# Altium footprint library 1-Antenna.P.PcbLib: 44 footprints (part 2 of 3)
Each footprint in its own frame and in the unit in brackets; x right, y up, seen from the top. Pads: shape width x height; smd on the part's side, far side on the other; paste and mask are expansions set on the pad; w line width, h text height; cw(c..) or ccw(c..) is an arc to the next point about the centre after c.
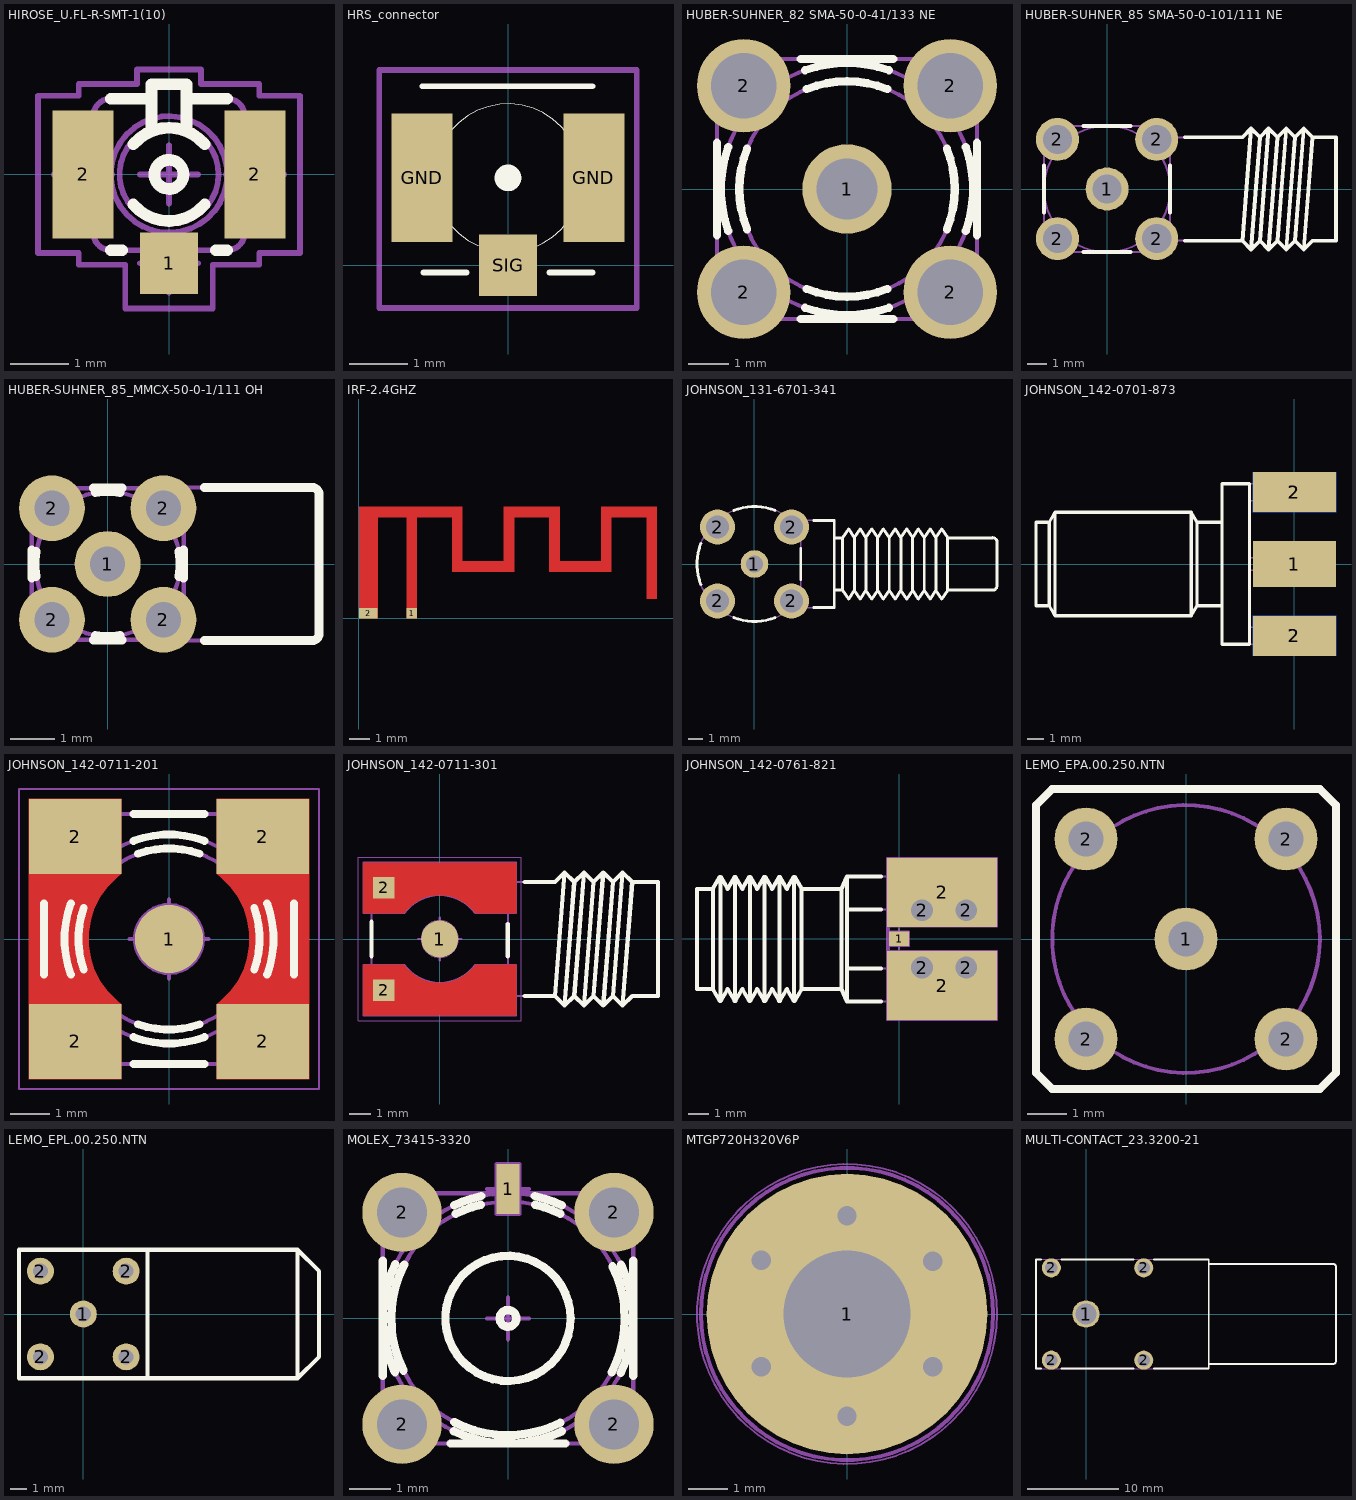
[diagram p1: the footprints below, top view; thin cyan lines are the x and y axes]

## HIROSE_U.FL-R-SMT-1(10) [mm] "Up to 6GHz Ultra Small Surface Mount Male Coaxial Connectors U.FL Series"
height 1.25
pads (3):
  rect 1x1.05 smd: 1(0,-1.525)
  rect 1.05x2.2 smd: 2(-1.475,0) 2(1.475,0)
Top Overlay:
  circle w0.2: c0,0 r0.25
  lines w0.2: -1,-1.3 -0.8,-1.3 ; -1,1.3 -0.3,1.3 ; -0.612,-0.516 ccw(c0,0) 0.612,-0.516 ; -0.612,0.516 cw(c0,0) 0.612,0.516 ; -0.3,0.75 -0.3,1.55 0.3,1.55 0.3,0.75 ; 0.3,1.3 1,1.3 ; 0.8,-1.3 1,-1.3
Mechanical 8:
  lines w0.1: -1.975,0 -1.475,0 ; -1.475,-0.5 -1.475,0 ; -1.475,0.5 -1.475,0 ; -0.975,0 -1.475,0 ; -0.5,-1.525 0,-1.525 ; -0.5,0 0,0 ; 0,-2.025 0,-1.525 ; 0,-1.025 0,-1.525 ; 0,-0.5 0,0 ; 0,0.5 0,0 ; 0.5,-1.525 0,-1.525 ; 0.5,0 0,0 ; 0.975,0 1.475,0 ; 1.475,-0.5 1.475,0 ; 1.475,0.5 1.475,0 ; 1.975,0 1.475,0
Mechanical 14:
  circle w0.1: c0,0 r0.25
  circle w0.1: c0,0 r0.85
  circle w0.1: c0,0 r1
  lines w0.1: -1.3,-0.9 -1.5,-0.9 -1.5,0.9 -1.3,0.9 ; -0.3,-1.3 -0.3,-1.55 0.3,-1.55 0.3,-1.3 ; -0.3,0.954 -0.3,1.55 0.3,1.55 0.3,0.954 ; -0.3,1.3 -1,1.3 ccw(c-1,1) -1.3,1 -1.3,-1 ccw(c-1,-1) -1,-1.3 1,-1.3 ccw(c1,-1) 1.3,-1 1.3,1 ccw(c1,1) 1,1.3 0.3,1.3 ; 1.3,-0.9 1.5,-0.9 1.5,0.9 1.3,0.9
Mechanical 15:
  lines w0.1: 0.75,1.55 1.55,1.55 ; 1.55,1.55 1.55,1.35 2.25,1.35 2.25,-1.35 1.55,-1.35 1.55,-1.55 0.75,-1.55 0.75,-2.3 -0.75,-2.3 -0.75,-1.55 -1.55,-1.55 -1.55,-1.35 -2.25,-1.35 -2.25,1.35 -1.55,1.35 -1.55,1.55 -0.55,1.55 -0.55,1.8 0.55,1.8 0.55,1.55 1.55,1.55
3D body "p10522.stp": height 0.01, standoff 0, extent -2.002,-1.104 -0.952,1.096
3D body "p10522.stp": height 0.01, standoff 0, extent 0.959,-1.094 2.009,1.106
3D body "HIROSE_U.FL-R-SMT-1(10).stp": height 1.25, standoff 0, extent -1.5,-1.55 1.5,1.55

## HRS_connector [mm]
height 9.77
pads (3):
  rect 1.05x2.2 smd: GND(-1.475,1.5) GND(1.475,1.5)
  rect 1x1.05 smd: SIG(0,0)
Top Overlay:
  circle w0.02: c0,1.499 r1.271
  circle w0.254: c0,1.499 r0.102
  lines w0.1: -1.473,3.073 1.448,3.073 ; -1.448,-0.127 -0.711,-0.127 ; 0.711,-0.127 1.448,-0.127
Mechanical 15:
  lines w0.1: -2.21,-0.737 2.21,-0.737 2.21,3.353 -2.21,3.353 -2.21,-0.737
3D body "ant-g.stp": height 1.15, standoff 0, extent -1.5,-0.027 1.5,2.973
3D body "1_05-2_2.stp": height 0.02, standoff 0, extent -2,0.4 -0.95,2.6
3D body "1_05-2_2.stp": height 0.02, standoff 0, extent 0.95,0.4 2,2.6
3D body "1-1_05.stp": height 0.02, standoff 0, extent -0.5,-0.525 0.5,0.525

## HUBER-SUHNER_82 SMA-50-0-41/133 NE [mm] "50 Ohm SMA Straight PCB Jack"
height 9.5
pads (5):
  round 2.2 hole 1.5: 1(0,0)
  round 2.3 hole 1.6: 2(-2.54,-2.54) 2(-2.54,2.54) 2(2.54,-2.54) 2(2.54,2.54)
Top Overlay:
  lines w0.2: -3.2,-1.138 -3.2,1.138 ; -2.921,-1.038 cw(c0,0) -2.921,1.038 ; -2.457,-0.992 cw(c0,0) -2.457,0.992 ; -1.138,-3.2 1.138,-3.2 ; -1.138,3.2 1.138,3.2 ; -1.038,-2.921 ccw(c0,0) 1.038,-2.921 ; -1.038,2.921 cw(c0,0) 1.038,2.921 ; -0.992,-2.457 ccw(c0,0) 0.992,-2.457 ; -0.992,2.457 cw(c0,0) 0.992,2.457 ; 2.457,-0.992 ccw(c0,0) 2.457,0.992 ; 2.921,-1.038 ccw(c0,0) 2.921,1.038 ; 3.2,-1.138 3.2,1.138
Mechanical 8:
  lines w0.1: -3.54,-2.54 -2.54,-2.54 ; -3.54,2.54 -2.54,2.54 ; -2.54,-3.54 -2.54,-2.54 ; -2.54,-1.54 -2.54,-2.54 ; -2.54,1.54 -2.54,2.54 ; -2.54,3.54 -2.54,2.54 ; -1.54,-2.54 -2.54,-2.54 ; -1.54,2.54 -2.54,2.54 ; -1,0 0,0 ; 0,-1 0,0 ; 0,1 0,0 ; 1,0 0,0 ; 1.54,-2.54 2.54,-2.54 ; 1.54,2.54 2.54,2.54 ; 2.54,-3.54 2.54,-2.54 ; 2.54,-1.54 2.54,-2.54 ; 2.54,1.54 2.54,2.54 ; 2.54,3.54 2.54,2.54 ; 3.54,-2.54 2.54,-2.54 ; 3.54,2.54 2.54,2.54
Mechanical 14:
  circle w0.1: c0,0 r3.1
  circle w0.1: c0,0 r2.65
  circle w0.1: c0,0 r0.5
  lines w0.1: -3.2,-3.2 3.2,-3.2 3.2,3.2 -3.2,3.2 -3.2,-3.2
3D body "ant-er50.stp": height 0.1, standoff -1.85, extent -3.69,1.39 -1.39,3.69
3D body "HUBER-SUHNER_82 SMA-50-0-41-133 NE.stp": height 9.5, standoff -4, extent -3.2,-3.2 3.2,3.2
3D body "ant-er50.stp": height 0.1, standoff -1.85, extent 1.39,1.39 3.69,3.69
3D body "ant-er50.stp": height 0.1, standoff -1.85, extent -3.69,-3.69 -1.39,-1.39
3D body "ant-er50.stp": height 0.1, standoff -1.85, extent 1.39,-3.69 3.69,-1.39
3D body "ant-er50.stp": height 0.1, standoff -1.85, extent -1.15,-1.15 1.15,1.15

## HUBER-SUHNER_85 SMA-50-0-101/111 NE [mm] "50 Ohm SMA Right Angle PCB Jack"
height 9.6
pads (5):
  round 2.2 hole 1.5: 1(0,0) 2(-2.54,-2.54) 2(-2.54,2.54) 2(2.54,-2.54) 2(2.54,2.54)
Top Overlay:
  lines w0.2: -3.23,-1.208 -3.23,1.208 ; -1.208,-3.23 1.208,-3.23 ; -1.208,3.23 1.208,3.23 ; 3.23,-1.208 3.23,1.208 ; 4,-2.65 6.93,-2.65 ; 4,2.65 6.93,2.65 7.38,3.1 ; 6.93,-2.65 7.38,-3.1 ; 6.93,-2.65 7.38,3.1 ; 7.38,-3.1 7.83,-2.65 ; 7.38,-3.1 7.83,2.65 ; 7.38,3.1 7.83,2.65 ; 7.83,-2.65 8.28,-3.1 ; 7.83,-2.65 8.28,3.1 ; 7.83,2.65 8.28,3.1 ; 8.28,-3.1 8.73,-2.65 ; 8.28,-3.1 8.73,2.65 ; 8.28,3.1 8.73,2.65 ; 8.73,-2.65 9.18,-3.1 ; 8.73,-2.65 9.18,3.1 ; 8.73,2.65 9.18,3.1 ; 9.18,-3.1 9.63,-2.65 ; 9.18,-3.1 9.63,2.65 ; 9.18,3.1 9.63,2.65 ; 9.63,-2.65 10.08,-3.1 ; 9.63,-2.65 10.08,3.1 ; 9.63,2.65 10.08,3.1 ; 10.08,-3.1 10.53,-2.65 11.73,-2.65 11.73,2.65 10.53,2.65 ; 10.08,-3.1 10.53,2.65 ; 10.08,3.1 10.53,2.65
Mechanical 8:
  lines w0.1: -3.54,-2.54 -2.54,-2.54 ; -3.54,2.54 -2.54,2.54 ; -2.54,-3.54 -2.54,-2.54 ; -2.54,-1.54 -2.54,-2.54 ; -2.54,1.54 -2.54,2.54 ; -2.54,3.54 -2.54,2.54 ; -1.54,-2.54 -2.54,-2.54 ; -1.54,2.54 -2.54,2.54 ; -1,0 0,0 ; 0,-1 0,0 ; 0,1 0,0 ; 1,0 0,0 ; 1.54,-2.54 2.54,-2.54 ; 1.54,2.54 2.54,2.54 ; 2.54,-3.54 2.54,-2.54 ; 2.54,-1.54 2.54,-2.54 ; 2.54,1.54 2.54,2.54 ; 2.54,3.54 2.54,2.54 ; 3.54,-2.54 2.54,-2.54 ; 3.54,2.54 2.54,2.54
Mechanical 14:
  circle w0.1: c0,0 r0.63
  circle w0.1: c0,0 r3.23
  lines w0.1: 2.558,-3.23 3.23,-2.558 ; 3.23,-2.65 6.93,-2.65 ; 3.23,2.65 6.93,2.65 7.38,3.1 ; 6.93,-2.65 7.38,-3.1 ; 6.93,-2.65 7.38,3.1 ; 7.38,-3.1 7.83,-2.65 ; 7.38,-3.1 7.83,2.65 ; 7.38,3.1 7.83,2.65 ; 7.83,-2.65 8.28,-3.1 ; 7.83,-2.65 8.28,3.1 ; 7.83,2.65 8.28,3.1 ; 8.28,-3.1 8.73,-2.65 ; 8.28,-3.1 8.73,2.65 ; 8.28,3.1 8.73,2.65 ; 8.73,-2.65 9.18,-3.1 ; 8.73,-2.65 9.18,3.1 ; 8.73,2.65 9.18,3.1 ; 9.18,-3.1 9.63,-2.65 ; 9.18,-3.1 9.63,2.65 ; 9.18,3.1 9.63,2.65 ; 9.63,-2.65 10.08,-3.1 ; 9.63,-2.65 10.08,3.1 ; 9.63,2.65 10.08,3.1 ; 10.08,-3.1 10.53,-2.65 11.73,-2.65 11.73,2.65 10.53,2.65 ; 10.08,-3.1 10.53,2.65 ; 10.08,3.1 10.53,2.65 ; -3.23,-3.23 -3.23,3.23 3.23,3.23 3.23,-3.23 -3.23,-3.23
3D body "ant-er50.stp": height 0.1, standoff -1.85, extent -3.69,-3.69 -1.39,-1.39
3D body "ant-er50.stp": height 0.1, standoff -1.85, extent 1.39,-3.69 3.69,-1.39
3D body "ant-er50.stp": height 0.1, standoff -1.85, extent 1.39,1.39 3.69,3.69
3D body "ant-er50.stp": height 0.1, standoff -1.85, extent -3.69,1.39 -1.39,3.69
3D body "ant-er50.stp": height 0.1, standoff -1.85, extent -1.15,-1.15 1.15,1.15
3D body "HUBER-SUHNER_85 SMA-50-0-101-111 NE.stp": height 9.6, standoff -4, extent -3.23,-3.23 11.73,3.23

## HUBER-SUHNER_85_MMCX-50-0-1/111 OH [mm] "MMCX 50 Ohm Right Angle PCB Jack"
height 3.8
pads (5):
  round 1.5 hole 0.8: 1(0,0) 2(-1.27,-1.27) 2(-1.27,1.27) 2(1.27,-1.27) 2(1.27,1.27)
Top Overlay:
  lines w0.2: -1.73,-0.326 -1.73,0.326 ; -1.626,-0.282 cw(c0,0) -1.626,0.282 ; -0.326,-1.73 0.326,-1.73 ; -0.326,1.73 0.326,1.73 ; -0.282,-1.626 ccw(c0,0) 0.282,-1.626 ; -0.282,1.626 cw(c0,0) 0.282,1.626 ; 1.626,-0.282 ccw(c0,0) 1.626,0.282 ; 2.208,-1.743 4.665,-1.743 ccw(c4.665,-1.593) 4.815,-1.593 4.815,1.593 ccw(c4.665,1.593) 4.665,1.743 2.208,1.743 ; 1.73,-0.326 1.73,0.326 1.73,-0.326
Mechanical 8:
  lines w0.1: -1.77,-1.27 -1.27,-1.27 ; -1.77,1.27 -1.27,1.27 ; -1.27,-1.77 -1.27,-1.27 ; -1.27,-0.77 -1.27,-1.27 ; -1.27,0.77 -1.27,1.27 ; -1.27,1.77 -1.27,1.27 ; -0.77,-1.27 -1.27,-1.27 ; -0.77,1.27 -1.27,1.27 ; -0.5,0 0,0 ; 0,-0.5 0,0 ; 0,0.5 0,0 ; 0.5,0 0,0 ; 0.77,-1.27 1.27,-1.27 ; 0.77,1.27 1.27,1.27 ; 1.27,-1.77 1.27,-1.27 ; 1.27,-0.77 1.27,-1.27 ; 1.27,0.77 1.27,1.27 ; 1.27,1.77 1.27,1.27 ; 1.77,-1.27 1.27,-1.27 ; 1.77,1.27 1.27,1.27
Mechanical 14:
  circle w0.1: c0,0 r1.65
  lines w0.1: -1.73,-1.73 -1.73,1.73 1.73,1.73 1.73,-1.73 -1.73,-1.73 ; 1.73,-1.743 4.665,-1.743 ccw(c4.665,-1.593) 4.815,-1.593 4.815,1.593 ccw(c4.665,1.593) 4.665,1.743 1.73,1.743 1.73,-1.743
3D body "v1712.stp": height 0.04, standoff -1.66, extent -0.85,-0.85 0.85,0.85
3D body "v1712.stp": height 0.04, standoff -1.66, extent -2.12,-2.12 -0.42,-0.42
3D body "v1712.stp": height 0.04, standoff -1.66, extent -2.12,0.42 -0.42,2.12
3D body "v1712.stp": height 0.04, standoff -1.66, extent 0.42,0.42 2.12,2.12
3D body "v1712.stp": height 0.04, standoff -1.66, extent 0.42,-2.12 2.12,-0.42
3D body "HUBER-SUHNER_85_MMCX-50-0-1-111 OH.stp": height 3.8, standoff -3, extent -1.73,-1.742 4.815,1.743

## IRF-2.4GHZ [mm]
pads (2):
  rect 0.5x0.5 smd paste-1 mask-1: 1(2.557,0.254)
  rect 0.9x0.5 smd paste-1 mask-1: 2(0.457,0.254)
Top Layer:
  region: 0.007,0.004 0.007,5.404 5.007,5.404 5.007,2.764 7.007,2.764 7.007,5.404 9.707,5.404 9.707,2.764 11.707,2.764 11.707,5.404 14.407,5.404 14.407,0.964 13.907,0.964 13.907,4.904 12.207,4.904 12.207,2.264 9.207,2.264 9.207,4.904 7.507,4.904 7.507,2.264 4.507,2.264 4.507,4.904 2.807,4.904 2.807,0.004 2.307,0.004 2.307,4.904 0.907,4.904 0.907,0.004
Top Solder:
  region: 14.461,0.914 14.461,5.461 11.667,5.461 11.667,2.819 9.762,2.819 9.762,5.461 6.943,5.461 6.943,2.819 5.063,2.819 5.063,5.461 -0.042,5.461 -0.042,-0.051 0.974,-0.051 0.974,4.851 2.244,4.851 2.244,-0.051 2.853,-0.051 2.853,4.851 4.454,4.851 4.454,2.21 7.552,2.21 7.552,4.851 9.153,4.851 9.153,2.21 12.251,2.21 12.251,4.851 13.852,4.851 13.852,0.914
3D body "irf_2_4ghz.stp": height 0.03, standoff 0, extent 0.066,-0.011 14.402,5.447

## JOHNSON_131-6701-341 [mm] "Right Angle Bulkhead SMC"
height 7.67
pads (5):
  round 1.9 hole 1.2: 1(0,0)
  round 2.4 hole 1.6: 2(-2.54,-2.54) 2(-2.54,2.54) 2(2.54,-2.54) 2(2.54,2.54)
Top Overlay:
  lines w0.2: -3.685,-1.422 cw(c0,0) -3.685,1.422 ; -1.422,-3.685 ccw(c0,0) 1.422,-3.685 ; -1.422,3.685 cw(c0,0) 1.422,3.685 ; 3.18,-1.074 3.18,1.074 ; 4.072,-3 5.48,-3 5.48,3 4.072,3 ; 5.48,-1.8 6.06,-1.8 ; 5.48,1.8 6.06,1.8 ; 6.86,1.8 6.86,-1.81 ; 7.66,1.8 7.66,-1.81 ; 8.46,1.8 8.46,-1.81 ; 9.26,1.8 9.26,-1.81 ; 10.06,1.8 10.06,-1.81 ; 10.86,1.8 10.86,-1.81 ; 11.66,1.8 11.66,-1.81 ; 12.46,1.8 12.46,-1.81 ; 13.26,-1.8 16.36,-1.8 ccw(c16.36,-1.5) 16.66,-1.5 16.66,1.5 ccw(c16.36,1.507) 16.296,1.8 ; 13.26,1.81 12.86,2.41 12.46,1.81 12.06,2.41 11.66,1.81 11.26,2.41 10.86,1.81 10.46,2.41 10.06,1.81 9.66,2.41 9.26,1.81 8.86,2.41 8.46,1.81 8.06,2.41 7.66,1.81 7.26,2.41 6.86,1.81 6.46,2.41 6.06,1.81 6.06,-1.81 6.46,-2.41 6.86,-1.81 ; 16.36,1.8 13.26,1.8 13.26,-1.81 12.86,-2.41 12.46,-1.81 ; 6.86,-1.81 7.26,-2.41 7.66,-1.81 ; 7.66,-1.81 8.06,-2.41 8.46,-1.81 ; 8.46,-1.81 8.86,-2.41 9.26,-1.81 ; 9.26,-1.81 9.66,-2.41 10.06,-1.81 ; 10.06,-1.81 10.46,-2.41 10.86,-1.81 ; 10.86,-1.81 11.26,-2.41 11.66,-1.81 ; 11.66,-1.81 12.06,-2.41 12.46,-1.81
Mechanical 8:
  lines w0.1: -3.04,-2.54 -2.54,-2.54 ; -3.04,2.54 -2.54,2.54 ; -2.54,-3.04 -2.54,-2.54 ; -2.54,-2.04 -2.54,-2.54 ; -2.54,2.04 -2.54,2.54 ; -2.54,3.04 -2.54,2.54 ; -2.04,-2.54 -2.54,-2.54 ; -2.04,2.54 -2.54,2.54 ; -0.5,0 0,0 ; 0,-0.5 0,0 ; 0,0.5 0,0 ; 0.5,0 0,0 ; 2.04,-2.54 2.54,-2.54 ; 2.04,2.54 2.54,2.54 ; 2.54,-3.04 2.54,-2.54 ; 2.54,-2.04 2.54,-2.54 ; 2.54,2.04 2.54,2.54 ; 2.54,3.04 2.54,2.54 ; 3.04,-2.54 2.54,-2.54 ; 3.04,2.54 2.54,2.54
Mechanical 14:
  lines w0.1: 3.18,-2.343 cw(c0,0) 3.18,2.343 ; 5.48,-1.8 6.06,-1.8 ; 5.48,1.8 6.06,1.8 ; 6.86,1.8 6.86,-1.81 ; 7.66,1.8 7.66,-1.81 ; 8.46,1.8 8.46,-1.81 ; 9.26,1.8 9.26,-1.81 ; 10.06,1.8 10.06,-1.81 ; 10.86,1.8 10.86,-1.81 ; 11.66,1.8 11.66,-1.81 ; 12.46,1.8 12.46,-1.81 ; 13.26,-1.8 16.36,-1.8 ccw(c16.36,-1.5) 16.66,-1.5 16.66,1.5 ccw(c16.36,1.507) 16.296,1.8 ; 13.26,1.81 12.86,2.41 12.46,1.81 12.06,2.41 11.66,1.81 11.26,2.41 10.86,1.81 10.46,2.41 10.06,1.81 9.66,2.41 9.26,1.81 8.86,2.41 8.46,1.81 8.06,2.41 7.66,1.81 7.26,2.41 6.86,1.81 6.46,2.41 6.06,1.81 6.06,-1.81 6.46,-2.41 6.86,-1.81 ; 16.36,1.8 13.26,1.8 13.26,-1.81 12.86,-2.41 12.46,-1.81 ; 6.86,-1.81 7.26,-2.41 7.66,-1.81 ; 7.66,-1.81 8.06,-2.41 8.46,-1.81 ; 8.46,-1.81 8.86,-2.41 9.26,-1.81 ; 9.26,-1.81 9.66,-2.41 10.06,-1.81 ; 10.06,-1.81 10.46,-2.41 10.86,-1.81 ; 10.86,-1.81 11.26,-2.41 11.66,-1.81 ; 11.66,-1.81 12.06,-2.41 12.46,-1.81 ; 3.18,-3 3.18,3 5.48,3 5.48,-3 3.18,-3
3D body "JOHNSON_131-6701-341_Part2.stp": height 8.3, standoff 0.7, extent 7.84,-3.8 10.14,3.8
3D body "JOHNSON_131-6701-341_Part1.stp": height 7.67, standoff -3.9, extent -3.946,-3.95 16.66,3.947
3D body "v230016.stp": height 0.04, standoff -1.66, extent -1.15,-1.15 1.15,1.15
3D body "v230016.stp": height 0.04, standoff -1.66, extent -3.69,-3.69 -1.39,-1.39
3D body "v230016.stp": height 0.04, standoff -1.66, extent -3.69,1.39 -1.39,3.69
3D body "v230016.stp": height 0.04, standoff -1.66, extent 1.39,1.39 3.69,3.69
3D body "v230016.stp": height 0.04, standoff -1.66, extent 1.39,-3.69 3.69,-1.39

## JOHNSON_142-0701-873 [mm] "SMA End Launch Straight Bulkhead Jack Receptacle - Round Contact"
height 8.05
pads (5):
  rect 5x2.794 smd: 1(0,0)
  rect 5x2.4 smd: 2(0,-4.317) 2(0,4.317)
  rect 5x2.4 smd far side: 2(0,-4.317) 2(0,4.317)
Top Overlay:
  lines w0.2: -14.73,-2.5 -15.526,-2.5 -15.526,2.5 -14.73,2.5 ; -5.85,-2.5 -4.35,-2.5 ; -5.85,2.5 -4.35,2.5 ; -14.38,-3.11 -6.2,-3.11 ; -14.38,-3.11 -14.73,-2.51 -14.73,2.51 -14.38,3.11 ; -14.38,-3.11 -14.38,3.11 ; -14.38,3.11 -6.2,3.11 ; -6.2,-3.11 -5.85,-2.51 -5.85,2.51 -6.2,3.11 ; -6.2,-3.11 -6.2,3.11 ; -4.35,-4.825 -4.35,4.825 -2.7,4.825 -2.7,-4.825 -4.35,-4.825
Mechanical 8:
  lines w0.1: -1,-4.317 0,-4.317 ; -1,0 0,0 ; -1,4.317 0,4.317 ; 0,-5.317 0,-4.317 ; 0,-3.317 0,-4.317 ; 0,-1 0,0 ; 0,1 0,0 ; 0,3.317 0,4.317 ; 0,5.317 0,4.317 ; 1,-4.317 0,-4.317 ; 1,0 0,0 ; 1,4.317 0,4.317
Mechanical 14:
  lines w0.1: -14.73,-2.5 -15.526,-2.5 -15.526,2.5 -14.73,2.5 ; -5.85,-2.5 -4.35,-2.5 ; -5.85,2.5 -4.35,2.5 ; -2.7,-3.809 2.05,-3.809 2.05,-4.825 -2.7,-4.825 ; -2.7,-0.381 2.054,-0.381 2.054,0.381 -2.696,0.381 ; -2.7,3.809 2.05,3.809 2.05,4.825 -2.7,4.825 ; -14.38,-3.11 -6.2,-3.11 ; -14.38,-3.11 -14.73,-2.51 -14.73,2.51 -14.38,3.11 ; -14.38,-3.11 -14.38,3.11 ; -14.38,3.11 -6.2,3.11 ; -6.2,-3.11 -5.85,-2.51 -5.85,2.51 -6.2,3.11 ; -6.2,-3.11 -6.2,3.11 ; -2.7,-4.825 -4.35,-4.825 -4.35,4.825 -2.7,4.825 ; -2.7,-4.825 -2.7,4.825
3D body "p5028.stp": height 0.01, standoff 0, extent -2.5,-1.4 2.5,1.4
3D body "p5024.stp": height 0.01, standoff 0, extent -2.503,3.112 2.497,5.512
3D body "p5024.stp": height 0.01, standoff 0, extent -2.485,-5.534 2.515,-3.134
3D body "JOHNSON_142-0701-873_Part1.stp": height 4.48, standoff -3.57, extent -15.526,-4.825 2.054,4.825
3D body "JOHNSON_142-0701-873_Part2.stp": height 5.56, standoff -4.64, extent -8.57,-5.1 -6.35,5.1

## JOHNSON_142-0711-201 [mm] "SMA 50 Ohm Straight Jack Receptacle - Surface Mount"
height 8.84
pads (5):
  round 1.73 smd: 1(0,0)
  rect 2.35x1.9 smd: 2(-2.38,-2.6) 2(-2.38,2.6) 2(2.38,-2.6) 2(2.38,2.6)
Top Layer:
  region: 1.205,-3.555 3.555,-3.555 3.555,3.555 1.205,3.555 1.205,1.652 1.331,1.553 1.557,1.326 1.745,1.067 1.89,0.781 1.989,0.476 2.039,0.16 2.039,-0.16 1.989,-0.477 1.89,-0.781 1.745,-1.067 1.557,-1.326 1.331,-1.553 1.205,-1.652
  region: -3.555,-3.555 -1.205,-3.555 -1.205,-1.652 -1.331,-1.553 -1.557,-1.326 -1.745,-1.067 -1.89,-0.781 -1.989,-0.477 -2.039,-0.16 -2.039,0.16 -1.989,0.476 -1.89,0.781 -1.745,1.067 -1.557,1.326 -1.331,1.553 -1.205,1.652 -1.205,3.555 -3.555,3.555
Top Overlay:
  lines w0.2: -3.175,-0.905 -3.175,0.905 ; -2.491,-0.905 cw(c0,0) -2.491,0.905 ; -2.162,-0.78 cw(c0,0.005) -2.162,0.79 ; -0.905,-3.175 0.905,-3.175 ; -0.905,-2.491 ccw(c0,0) 0.905,-2.491 ; -0.905,2.491 cw(c0,0) 0.905,2.491 ; -0.905,3.175 0.905,3.175 ; -0.79,-2.162 ccw(c-0.005,0) 0.78,-2.162 ; -0.79,2.162 cw(c-0.005,0) 0.78,2.162 ; 2.162,-0.78 ccw(c0,0.005) 2.162,0.79 ; 2.491,-0.905 ccw(c0,0) 2.491,0.905 ; 3.175,-0.905 3.175,0.905
Top Solder:
  region: -3.655,-3.655 -3.655,-1.105 -1.601,-1.105 -1.549,-1.176 -1.436,-1.312 -1.312,-1.436 -1.176,-1.549 -1.105,-1.601 -1.105,-3.655
  region: 1.105,-3.655 1.105,-1.601 1.176,-1.549 1.312,-1.436 1.436,-1.312 1.549,-1.176 1.601,-1.105 3.655,-1.105 3.655,-3.655
  region: -3.655,1.105 -1.601,1.105 -1.549,1.176 -1.436,1.312 -1.312,1.436 -1.176,1.549 -1.105,1.601 -1.105,3.655 -3.655,3.655
  region: 1.105,1.601 1.176,1.549 1.312,1.436 1.436,1.312 1.549,1.176 1.601,1.105 3.655,1.105 3.655,3.655 1.105,3.655
Mechanical 8:
  lines w0.1: -3.38,-2.38 -2.38,-2.38 ; -3.38,2.38 -2.38,2.38 ; -2.38,-3.38 -2.38,-2.38 ; -2.38,-1.38 -2.38,-2.38 ; -2.38,1.38 -2.38,2.38 ; -2.38,3.38 -2.38,2.38 ; -1.38,-2.38 -2.38,-2.38 ; -1.38,2.38 -2.38,2.38 ; -1,0 0,0 ; 0,-1 0,0 ; 0,1 0,0 ; 1,0 0,0 ; 1.38,-2.38 2.38,-2.38 ; 1.38,2.38 2.38,2.38 ; 2.38,-3.38 2.38,-2.38 ; 2.38,-1.38 2.38,-2.38 ; 2.38,1.38 2.38,2.38 ; 2.38,3.38 2.38,2.38 ; 3.38,-2.38 2.38,-2.38 ; 3.38,2.38 2.38,2.38 ; -3.175,-3.175 -3.175,-1.585 -1.585,-1.585 -1.585,-3.175 -3.175,-3.175 ; -3.175,1.585 -3.175,3.175 -1.585,3.175 -1.585,1.585 -3.175,1.585 ; 1.585,-3.175 3.175,-3.175 3.175,-1.585 1.585,-1.585 1.585,-3.175 ; 1.585,1.585 3.175,1.585 3.175,3.175 1.585,3.175 1.585,1.585
Mechanical 14:
  circle w0.1: c0,0 r0.635
  circle w0.1: c0,0 r2.65
  circle w0.1: c0,0 r2.3
  lines w0.1: 3.175,-3.175 -3.175,-3.175 -3.175,3.175 3.175,3.175 ; 3.175,-3.175 3.175,3.175 ; 3.175,-3.175 3.175,3.175
Mechanical 15:
  circle w0.1: c0,0 r0.865
  lines w0.05: -3.805,-3.805 -3.805,3.805 3.805,3.805 3.805,-3.805 -3.805,-3.805
3D body "JOHNSON_142-0711-201.stp": height 8.84, standoff 0, extent -3.175,-3.175 3.175,3.175

## JOHNSON_142-0711-301 [mm] "SMA 50 Ohm Right Angle Jack Receptacle - Surface Mount"
height 8.26
pads (3):
  round 1.73 smd: 1(0,0)
  rect 1x1 smd: 2(-2.6,-2.38) 2(-2.6,2.38)
Top Layer:
  region: 3.555,-3.555 3.555,-1.205 1.652,-1.205 1.553,-1.331 1.326,-1.557 1.067,-1.745 0.781,-1.89 0.476,-1.989 0.16,-2.039 -0.16,-2.039 -0.477,-1.989 -0.781,-1.89 -1.067,-1.745 -1.326,-1.557 -1.553,-1.331 -1.652,-1.205 -3.555,-1.205 -3.555,-3.555
  region: 3.555,1.205 3.555,3.555 -3.555,3.555 -3.555,1.205 -1.652,1.205 -1.553,1.331 -1.326,1.557 -1.067,1.745 -0.781,1.89 -0.477,1.989 -0.16,2.039 0.16,2.039 0.476,1.989 0.781,1.89 1.067,1.745 1.326,1.557 1.553,1.331 1.652,1.205
Top Overlay:
  lines w0.2: -3.175,-0.805 -3.175,0.805 ; 3.175,-0.805 3.175,0.7 ; 3.955,-2.65 5.365,-2.65 ; 3.955,2.65 5.365,2.65 5.815,3.1 ; 5.365,-2.65 5.815,-3.1 ; 5.365,-2.65 5.815,3.1 ; 5.815,-3.1 6.265,-2.65 ; 5.815,-3.1 6.265,2.65 ; 5.815,3.1 6.265,2.65 ; 6.265,-2.65 6.715,-3.1 ; 6.265,-2.65 6.715,3.1 ; 6.265,2.65 6.715,3.1 ; 6.715,-3.1 7.165,-2.65 ; 6.715,-3.1 7.165,2.65 ; 6.715,3.1 7.165,2.65 ; 7.165,-2.65 7.615,-3.1 ; 7.165,-2.65 7.615,3.1 ; 7.165,2.65 7.615,3.1 ; 7.615,-3.1 8.065,-2.65 ; 7.615,-3.1 8.065,2.65 ; 7.615,3.1 8.065,2.65 ; 8.065,-2.65 8.515,-3.1 ; 8.065,-2.65 8.515,3.1 ; 8.065,2.65 8.515,3.1 ; 8.515,-3.1 8.965,-2.65 10.165,-2.65 10.165,2.65 8.965,2.65 ; 8.515,-3.1 8.965,2.65 ; 8.515,3.1 8.965,2.65
Mechanical 7:
  lines w0.1: -3.555,-3.555 -3.555,-1.205 -1.652,-1.205 ccw(c0,0) 1.652,-1.205 3.555,-1.205 3.555,-3.555 -3.555,-3.555 ; -3.555,1.205 -3.555,3.555 3.555,3.555 3.555,1.205 1.652,1.205 ccw(c0,0) -1.652,1.205 -3.555,1.205
Mechanical 8:
  lines w0.1: -3.38,-2.38 -2.38,-2.38 ; -3.38,2.38 -2.38,2.38 ; -3.175,-1.585 -1.585,-1.585 -1.585,-3.175 ; -3.175,1.585 -1.585,1.585 -1.585,3.175 ; -2.38,-3.38 -2.38,-2.38 ; -2.38,-1.38 -2.38,-2.38 ; -2.38,1.38 -2.38,2.38 ; -2.38,3.38 -2.38,2.38 ; -1.38,-2.38 -2.38,-2.38 ; -1.38,2.38 -2.38,2.38 ; -1,0 0,0 ; 0,-1 0,0 ; 0,1 0,0 ; 1,0 0,0 ; 1.38,-2.38 2.38,-2.38 ; 1.38,2.38 2.38,2.38 ; 1.585,-3.175 1.585,-1.585 3.175,-1.585 ; 1.585,3.175 1.585,1.585 3.175,1.585 ; 2.38,-3.38 2.38,-2.38 ; 2.38,-1.38 2.38,-2.38 ; 2.38,1.38 2.38,2.38 ; 2.38,3.38 2.38,2.38 ; 3.38,-2.38 2.38,-2.38 ; 3.38,2.38 2.38,2.38 ; -3.555,-3.555 -1.205,-3.555 -1.205,-1.652 cw(c0,0) -1.652,-1.205 -3.555,-1.205 -3.555,-3.555 ; -3.555,1.205 -3.555,3.555 -1.205,3.555 -1.205,1.652 ccw(c0,0) -1.652,1.205 -3.555,1.205 ; 1.205,-3.555 1.205,-1.652 ccw(c0,0) 1.652,-1.205 3.555,-1.205 3.555,-3.555 1.205,-3.555 ; 1.205,1.652 cw(c0,0) 1.652,1.205 3.555,1.205 3.555,3.555 1.205,3.555 1.205,1.652
Mechanical 14:
  circle w0.1: c0,0 r0.635
  lines w0.1: 3.175,-2.65 5.365,-2.65 ; 3.175,2.65 5.365,2.65 5.815,3.1 ; -3.175,-3.175 -3.175,3.175 3.175,3.175 3.175,-3.175 ; -3.175,-3.175 3.175,-3.175 ; -3.175,-3.175 3.175,-3.175 ; 5.365,-2.65 5.815,-3.1 ; 5.365,-2.65 5.815,3.1 ; 5.815,-3.1 6.265,-2.65 ; 5.815,-3.1 6.265,2.65 ; 5.815,3.1 6.265,2.65 ; 6.265,-2.65 6.715,-3.1 ; 6.265,-2.65 6.715,3.1 ; 6.265,2.65 6.715,3.1 ; 6.715,-3.1 7.165,-2.65 ; 6.715,-3.1 7.165,2.65 ; 6.715,3.1 7.165,2.65 ; 7.165,-2.65 7.615,-3.1 ; 7.165,-2.65 7.615,3.1 ; 7.165,2.65 7.615,3.1 ; 7.615,-3.1 8.065,-2.65 ; 7.615,-3.1 8.065,2.65 ; 7.615,3.1 8.065,2.65 ; 8.065,-2.65 8.515,-3.1 ; 8.065,-2.65 8.515,3.1 ; 8.065,2.65 8.515,3.1 ; 8.515,-3.1 8.965,-2.65 10.165,-2.65 10.165,2.65 8.965,2.65 ; 8.515,-3.1 8.965,2.65 ; 8.515,3.1 8.965,2.65
Mechanical 15:
  circle w0.05: c0,0 r0.865
  lines w0.05: -3.805,-3.805 -3.805,3.805 3.805,3.805 3.805,-3.805 -3.805,-3.805
3D body "JOHNSON_142-0711-301.stp": height 8.26, standoff 0, extent -3.175,-3.175 10.165,3.175

## JOHNSON_142-0761-821 [mm] "SMA 50 Ohm End Launch Jack Receptacle"
height 5.53
pads (7):
  rect 1x0.724 smd: 1(0,0)
  round 1.6 hole 1.1: 2(1.15,-1.435) 2(1.15,1.435) 2(3.36,-1.435) 2(3.36,1.435)
  rect 5.5x3.44 smd: 2(2.15,-2.338) 2(2.15,2.328)
Top Overlay:
  lines w0.2: -9.324,-2.5 -10.12,-2.5 -10.12,2.5 -9.324,2.5 -9.324,-2.51 -8.974,-3.11 -8.934,-3.11 -8.584,-2.51 -8.234,-3.11 -8.194,-3.11 -7.844,-2.51 -7.494,-3.11 -7.454,-3.11 -7.104,-2.51 -6.754,-3.11 -6.714,-3.11 -6.364,-2.51 -6.014,-3.11 -5.974,-3.11 -5.624,-2.51 -5.274,-3.11 -5.234,-3.11 -4.884,-2.51 -4.884,2.51 -5.234,3.11 -5.274,3.11 -5.624,2.51 -5.974,3.11 -6.014,3.11 -6.364,2.51 -6.714,3.11 -6.754,3.11 -7.104,2.51 -7.454,3.11 -7.494,3.11 -7.844,2.51 -8.194,3.11 -8.234,3.11 -8.584,2.51 -8.934,3.11 -8.974,3.11 -9.324,2.51 ; -8.954,-3.11 -8.954,3.11 ; -8.214,-3.11 -8.214,3.11 ; -7.474,-3.11 -7.474,3.11 ; -6.734,-3.11 -6.734,3.11 ; -5.994,-3.11 -5.994,3.11 ; -5.254,-3.11 -5.254,3.11 ; -4.884,-2.5 -2.885,-2.5 ; -4.884,2.5 -2.885,2.5 ; -2.62,-1.477 -0.9,-1.477 ; -2.62,1.477 -0.9,1.477 ; -0.9,-3.135 -2.62,-3.135 ; -0.9,3.135 -2.62,3.135 ; -2.885,-2.5 -2.885,2.5 ; -2.885,-2.5 -2.62,-3.135 ; -2.885,2.5 -2.62,3.135 ; -2.62,-3.135 -2.62,3.135
Mechanical 8:
  lines w0.1: -0.6,-0.616 4.9,-0.616 4.9,-4.06 -0.6,-4.06 -0.6,4.04 4.9,4.04 4.9,0.616 -0.6,0.616 ; -0.5,0 0,0 ; 0,-0.5 0,0 ; 0,0.5 0,0 ; 0.5,0 0,0 ; 0.65,-1.435 1.15,-1.435 ; 0.65,1.435 1.15,1.435 ; 1.15,-1.935 1.15,-1.435 ; 1.15,-0.935 1.15,-1.435 ; 1.15,0.935 1.15,1.435 ; 1.15,1.935 1.15,1.435 ; 1.65,-2.338 2.15,-2.338 ; 1.65,-1.435 1.15,-1.435 ; 1.65,1.435 1.15,1.435 ; 1.65,2.328 2.15,2.328 ; 2.15,-2.838 2.15,-2.338 ; 2.15,-1.838 2.15,-2.338 ; 2.15,1.828 2.15,2.328 ; 2.15,2.828 2.15,2.328 ; 2.65,-2.338 2.15,-2.338 ; 2.65,2.328 2.15,2.328 ; 2.86,-1.435 3.36,-1.435 ; 2.86,1.435 3.36,1.435 ; 3.36,-1.935 3.36,-1.435 ; 3.36,-0.935 3.36,-1.435 ; 3.36,0.935 3.36,1.435 ; 3.36,1.935 3.36,1.435 ; 3.86,-1.435 3.36,-1.435 ; 3.86,1.435 3.36,1.435 ; -0.5,-0.362 0.5,-0.362 0.5,0.362 -0.5,0.362 -0.5,-0.362
Mechanical 14:
  lines w0.1: -9.324,-2.5 -10.12,-2.5 -10.12,2.5 -9.324,2.5 -9.324,-2.51 -8.974,-3.11 -8.934,-3.11 -8.584,-2.51 -8.234,-3.11 -8.194,-3.11 -7.844,-2.51 -7.494,-3.11 -7.454,-3.11 -7.104,-2.51 -6.754,-3.11 -6.714,-3.11 -6.364,-2.51 -6.014,-3.11 -5.974,-3.11 -5.624,-2.51 -5.274,-3.11 -5.234,-3.11 -4.884,-2.51 -4.884,2.51 -5.234,3.11 -5.274,3.11 -5.624,2.51 -5.974,3.11 -6.014,3.11 -6.364,2.51 -6.714,3.11 -6.754,3.11 -7.104,2.51 -7.454,3.11 -7.494,3.11 -7.844,2.51 -8.194,3.11 -8.234,3.11 -8.584,2.51 -8.934,3.11 -8.974,3.11 -9.324,2.51 ; -8.954,-3.11 -8.954,3.11 ; -8.214,-3.11 -8.214,3.11 ; -7.474,-3.11 -7.474,3.11 ; -6.734,-3.11 -6.734,3.11 ; -5.994,-3.11 -5.994,3.11 ; -5.254,-3.11 -5.254,3.11 ; -4.884,-2.5 -2.885,-2.5 ; -4.884,2.5 -2.885,2.5 ; -2.62,-1.477 -0.6,-1.477 ; -2.62,1.477 -0.6,1.477 ; -0.6,-3.135 -0.6,3.135 ; -0.6,-0.85 3.95,-0.85 3.95,-3.135 -2.62,-3.135 ; -0.6,-0.6 -0.5,-0.6 -0.5,0.6 -0.6,0.6 ; -0.6,0.85 3.95,0.85 3.95,3.135 -2.62,3.135 ; -0.5,-0.19 0.16,-0.19 0.16,0.19 -0.5,0.19 ; -2.885,-2.5 -2.885,2.5 ; -2.885,-2.5 -2.62,-3.135 ; -2.885,2.5 -2.62,3.135 ; -2.62,-3.135 -2.62,3.135
3D body "p1007.stp": height 0.01, standoff 0, extent -0.5,-0.35 0.5,0.35
3D body "p55344.stp": height 0.01, standoff 0, extent -0.595,0.638 4.905,4.078
3D body "p55344.stp": height 0.01, standoff 0, extent -0.608,-4.067 4.892,-0.627
3D body "JOHNSON_142-0761-821.stp": height 3.3, standoff -2.92, extent -10.12,-3.135 3.95,3.135

## LEMO_EPA.00.250.NTN [mm] "50 Ohm size 00 Coaxial Straight socket"
height 14
pads (5):
  round 1.6 hole 0.9: 1(0,0) 2(-2.54,-2.54) 2(-2.54,2.54) 2(2.54,-2.54) 2(2.54,2.54)
Top Overlay:
  lines w0.2: -3.81,-3.4 -3.81,3.4 -3.4,3.81 3.4,3.81 3.81,3.4 3.81,-3.4 3.4,-3.81 -3.4,-3.81 -3.81,-3.4
Mechanical 14:
  circle w0.1: c0,0 r3.4
  lines w0.1: -3.81,-3.39 -3.39,-3.81 3.39,-3.81 3.81,-3.39 3.81,3.4 3.4,3.81 -3.39,3.81 -3.81,3.39 -3.81,-3.39
3D body "LEMO_EPA.00.250.NTN.stp": height 14, standoff -3, extent -3.5,-3.5 3.5,3.5
3D body "v1712.stp": height 0.04, standoff -1.66, extent 1.69,-3.39 3.39,-1.69
3D body "v1712.stp": height 0.04, standoff -1.66, extent -0.85,-0.85 0.85,0.85
3D body "v1712.stp": height 0.04, standoff -1.66, extent -3.39,-3.39 -1.69,-1.69
3D body "v1712.stp": height 0.04, standoff -1.66, extent -3.39,1.69 -1.69,3.39
3D body "v1712.stp": height 0.04, standoff -1.66, extent 1.69,1.69 3.39,3.39

## LEMO_EPL.00.250.NTN [mm] "50 Ohm size 00 Coaxial Elbow (90? socket"
height 7
pads (5):
  round 1.6 hole 0.9: 1(0,0) 2(-2.54,-2.54) 2(-2.54,2.54) 2(2.54,-2.54) 2(2.54,2.54)
Top Overlay:
  lines w0.254: 3.81,-3.81 -3.81,-3.81 -3.81,3.81 3.81,3.81 ; 3.81,-3.81 3.81,3.81 ; 3.81,-3.81 12.7,-3.81 ; 3.81,3.81 12.7,3.81 ; 12.7,-3.81 12.7,3.81 ; 12.7,-3.81 13.97,-2.54 13.97,2.54 12.7,3.81
Mechanical 14:
  lines w0.1: 3.81,-3.81 12.7,-3.81 ; 3.81,-3.81 -3.81,-3.81 -3.81,3.81 3.81,3.81 ; 3.81,-3.81 3.81,3.81 ; 3.81,3.81 12.7,3.81 ; 12.7,-3.81 12.7,3.81 ; 12.7,-3.81 13.97,-2.54 13.97,2.54 12.7,3.81
3D body "v1712.stp": height 0.04, standoff -1.66, extent 1.69,1.69 3.39,3.39
3D body "v1712.stp": height 0.04, standoff -1.66, extent -3.39,1.69 -1.69,3.39
3D body "v1712.stp": height 0.04, standoff -1.66, extent -0.85,-0.85 0.85,0.85
3D body "v1712.stp": height 0.04, standoff -1.66, extent -3.39,-3.39 -1.69,-1.69
3D body "v1712.stp": height 0.04, standoff -1.66, extent 1.69,-3.39 3.39,-1.69
3D body "LEMO_EPL.00.250.NTN.stp": height 7, standoff -3, extent -3.5,-3.5 14,3.5

## MOLEX_73415-3320 [mm] "50 Ohm SMP Vertical Plug"
height 4.1
pads (5):
  rect 0.54x1.2 smd: 1(0,3.1)
  round 1.9 hole 1.2: 2(-2.54,-2.54) 2(-2.54,2.54) 2(2.54,-2.54) 2(2.54,2.54)
Top Overlay:
  circle w0.2: c0,0 r0.2
  circle w0.2: c0,0 r1.5
  lines w0.2: -3,-1.378 -3,1.378 ; -2.709,-1.29 cw(c0,0) -2.703,1.301 ; -2.504,-1.252 cw(c0,0) -2.484,1.291 ; -1.378,-3 1.378,-3 ; -1.301,-2.703 ccw(c0,0) 1.29,-2.709 ; -1.291,-2.484 ccw(c0,0) 1.252,-2.504 ; -1.29,2.709 cw(c0,0) -0.637,2.932 ; -1.252,2.504 cw(c0,0) -0.649,2.724 ; 0.637,2.932 cw(c0,0) 1.29,2.709 ; 0.649,2.724 cw(c0,0) 1.252,2.504 ; 2.484,-1.291 ccw(c0,0) 2.504,1.252 ; 2.703,-1.301 ccw(c0,0) 2.709,1.29 ; 3,-1.378 3,1.378
Mechanical 8:
  lines w0.1: -3.04,-2.54 -2.54,-2.54 ; -3.04,2.54 -2.54,2.54 ; -2.54,-3.04 -2.54,-2.54 ; -2.54,-2.04 -2.54,-2.54 ; -2.54,2.04 -2.54,2.54 ; -2.54,3.04 -2.54,2.54 ; -2.04,-2.54 -2.54,-2.54 ; -2.04,2.54 -2.54,2.54 ; -0.5,0 0,0 ; -0.5,3.1 0,3.1 ; 0,-0.5 0,0 ; 0,0.5 0,0 ; 0,2.6 0,3.1 ; 0,3.6 0,3.1 ; 0.5,0 0,0 ; 0.5,3.1 0,3.1 ; 2.04,-2.54 2.54,-2.54 ; 2.04,2.54 2.54,2.54 ; 2.54,-3.04 2.54,-2.54 ; 2.54,-2.04 2.54,-2.54 ; 2.54,2.04 2.54,2.54 ; 2.54,3.04 2.54,2.54 ; 3.04,-2.54 2.54,-2.54 ; 3.04,2.54 2.54,2.54 ; -0.27,2.5 -0.27,3.7 0.27,3.7 0.27,2.5 -0.27,2.5
Mechanical 14:
  circle w0.1: c0,0 r0.2
  circle w0.1: c0,0 r1.5
  circle w0.1: c0,0 r2.8
  circle w0.1: c0,0 r3
  lines w0.1: -0.2,3 -0.2,3.5 0.2,3.5 0.2,3 ; -3,-2.7 -3,2.7 -2.7,3 2.7,3 3,2.7 3,-2.7 2.7,-3 -2.7,-3 -3,-2.7
3D body "p05412.stp": height 0.01, standoff 0, extent -0.268,2.521 0.272,3.721
3D body "MOLEX_73415-3320.stp": height 4.1, standoff -2.2, extent -3,-3 3,3.5
3D body "v190012.stp": height 0.04, standoff -1.66, extent 1.59,1.565 3.49,3.465
3D body "v190012.stp": height 0.04, standoff -1.66, extent -3.49,1.565 -1.59,3.465
3D body "v190012.stp": height 0.04, standoff -1.66, extent -3.49,-3.515 -1.59,-1.615
3D body "v190012.stp": height 0.04, standoff -1.66, extent 1.59,-3.49 3.49,-1.59

## MTGP720H320V6P [mm]
pads (1):
  round 7.2 hole 3.25: 1(0,0)
via -2.2,-1.35 diameter 1 hole 0.5
via -2.2,1.375 diameter 1 hole 0.5
via 0,2.525 diameter 1 hole 0.5
via 2.2,1.35 diameter 1 hole 0.5
via 0,-2.625 diameter 1 hole 0.5
via 2.2,-1.35 diameter 1 hole 0.5
Mechanical 8:
  circle w0.1: c0,0 r2.6
  circle w0.1: c0,0 r3.75
  lines w0.1: -2.657,1.625 -2.224,1.375 ; -2.632,-1.6 -2.199,-1.35 ; -2.474,0.942 -2.224,1.375 ; -2.449,-0.917 -2.199,-1.35 ; -1.974,1.808 -2.224,1.375 ; -1.949,-1.783 -2.199,-1.35 ; -1.791,1.125 -2.224,1.375 ; -1.766,-1.1 -2.199,-1.35 ; -0.5,-2.625 0,-2.625 ; -0.5,0 0,0 ; -0.5,2.525 0,2.525 ; 0,-3.125 0,-2.625 ; 0,-2.125 0,-2.625 ; 0,-0.5 0,0 ; 0,0.5 0,0 ; 0,2.025 0,2.525 ; 0,3.025 0,2.525 ; 0.5,-2.625 0,-2.625 ; 0.5,0 0,0 ; 0.5,2.525 0,2.525 ; 1.766,-1.1 2.199,-1.35 ; 1.766,1.1 2.199,1.35 ; 1.949,-1.783 2.199,-1.35 ; 1.949,1.783 2.199,1.35 ; 2.449,-0.917 2.199,-1.35 ; 2.449,0.917 2.199,1.35 ; 2.632,-1.6 2.199,-1.35 ; 2.632,1.6 2.199,1.35
Mechanical 14:
  circle w0.1: c0,0 r3.75
Mechanical 15:
  circle w0.05: c0,0 r3.85
3D body "mtgp720h320v6p.stp": height 0.1, standoff -1.75, extent -3.627,-3.627 3.628,3.628

## MULTI-CONTACT_23.3200-21 [mm] "MULTI-CONTACT Black Insulated ?4mm Angled Socket SLB4-I/90 For Banana 4mm"
height 11.5
pads (5):
  round 3 hole 2.3: 1(0,0)
  round 2.1 hole 1.4: 2(-3.81,-5.08) 2(-3.81,5.08) 2(6.35,-5.08) 2(6.35,5.08)
Top Overlay:
  lines w0.2: -4.931,-6 -5.5,-6 -5.5,6 -4.931,6 ; -2.689,-6 5.229,-6 ; -2.689,6 5.229,6 ; 7.471,-6 13.5,-6 13.5,6 7.471,6 ; 13.5,-5.5 27.2,-5.5 ccw(c27.2,-5.2) 27.5,-5.2 27.5,5.2 ccw(c27.2,5.2) 27.2,5.5 13.5,5.5
Mechanical 8:
  lines w0.1: -4.81,-5.08 -3.81,-5.08 ; -4.81,5.08 -3.81,5.08 ; -3.81,-6.08 -3.81,-5.08 ; -3.81,-4.08 -3.81,-5.08 ; -3.81,4.08 -3.81,5.08 ; -3.81,6.08 -3.81,5.08 ; -2.81,-5.08 -3.81,-5.08 ; -2.81,5.08 -3.81,5.08 ; -1,0 0,0 ; 0,-1 0,0 ; 0,1 0,0 ; 1,0 0,0 ; 5.35,-5.08 6.35,-5.08 ; 5.35,5.08 6.35,5.08 ; 6.35,-6.08 6.35,-5.08 ; 6.35,-4.08 6.35,-5.08 ; 6.35,4.08 6.35,5.08 ; 6.35,6.08 6.35,5.08 ; 7.35,-5.08 6.35,-5.08 ; 7.35,5.08 6.35,5.08
Mechanical 14:
  lines w0.1: 13.5,-5.5 27.2,-5.5 ccw(c27.2,-5.2) 27.5,-5.2 27.5,5.2 ccw(c27.2,5.2) 27.2,5.5 13.5,5.5 ; -5.5,-6 13.5,-6 13.5,6 -5.5,6 -5.5,-6
3D body "MULTI-CONTACT_23.3200-21.stp": height 12.3, standoff -3.4, extent -5.5,-6 27.5,6
3D body "v210014.stp": height 0.04, standoff -1.66, extent 5.3,-6.13 7.4,-4.03
3D body "v210014.stp": height 0.04, standoff -1.66, extent -4.86,-6.181 -2.76,-4.081
3D body "v210014.stp": height 0.04, standoff -1.66, extent -4.86,3.979 -2.76,6.079
3D body "v210014.stp": height 0.04, standoff -1.66, extent 5.275,3.979 7.375,6.079
3D body "v300023.stp": height 0.04, standoff -1.66, extent -1.525,-1.5 1.475,1.5